# EAGLE library part FPC20 (library laforge)
20pos FPC 0.5mm pitch / solder / socket
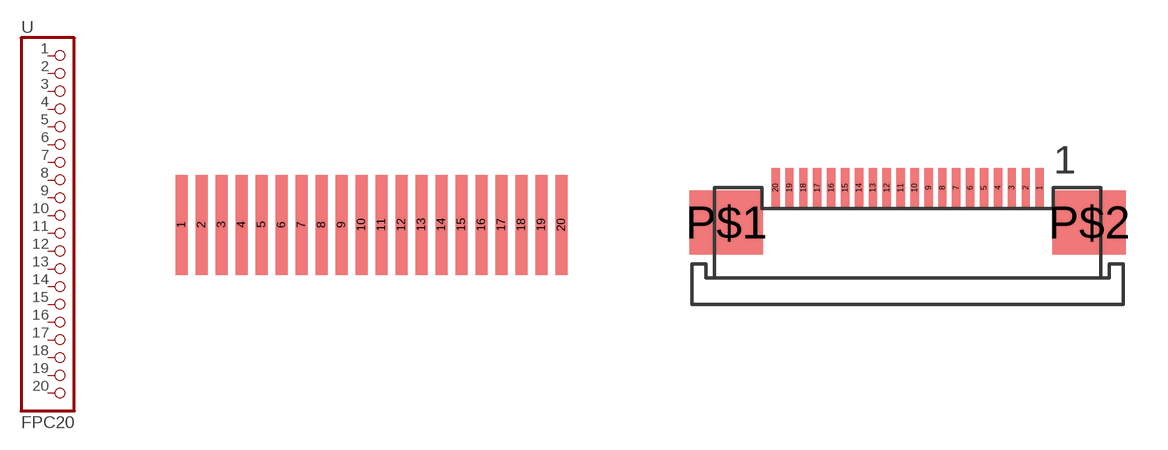
[diagram p30: symbol with the pads of FPC_SOLDER_20; footprints FPC_SOLDER_20, SFV20R-1ST]

Designator prefix -

## FPC20  [FPC_SOLDER_20]
1  1  pas
2  2  pas
3  3  pas
4  4  pas
5  5  pas
6  6  pas
7  7  pas
8  8  pas
9  9  pas
10  10  pas
11  11  pas
12  12  pas
13  13  pas
14  14  pas
15  15  pas
16  16  pas
17  17  pas
18  18  pas
19  19  pas
20  20  pas

## FPC20J  [SFV20R-1ST]
Pads as for FPC_SOLDER_20

## Footprint FPC_SOLDER_20 (pad centres in mm)
smd 0.3 x 2.5: 1 -4.75,0; 2 -4.25,0; 3 -3.75,0; 4 -3.25,0; 5 -2.75,0; 6 -2.25,0; 7 -1.75,0; 8 -1.25,0; 9 -0.75,0; 10 -0.25,0; 11 0.25,0; 12 0.75,0; 13 1.25,0; 14 1.75,0; 15 2.25,0; 16 2.75,0; 17 3.25,0; 18 3.75,0; 19 4.25,0; 20 4.75,0

## Footprint SFV20R-1ST (pad centres in mm)
FCI SFV20R-1ST__HLF, 20pos 0.5mm pitch FPC slide connector, lower contact type
smd 0.3 x 1.4: 1 4.75,0.75; 2 4.25,0.75; 3 3.75,0.75; 4 3.25,0.75; 5 2.75,0.75; 6 2.25,0.75; 7 1.75,0.75; 8 1.25,0.75; 9 0.75,0.75; 10 0.25,0.75; 11 -0.25,0.75; 12 -0.75,0.75; 13 -1.25,0.75; 14 -1.75,0.75; 15 -2.25,0.75; 16 -2.75,0.75; 17 -3.25,0.75; 18 -3.75,0.75; 19 -4.25,0.75; 20 -4.75,0.75
smd 2.65 x 2.3: P$1 -6.525,-0.5; P$2 6.525,-0.5